# Altium schematic symbol library Connectors.SchLib: 8 symbols
Pins are listed as number, name and electrical type; pins without a type are passive.

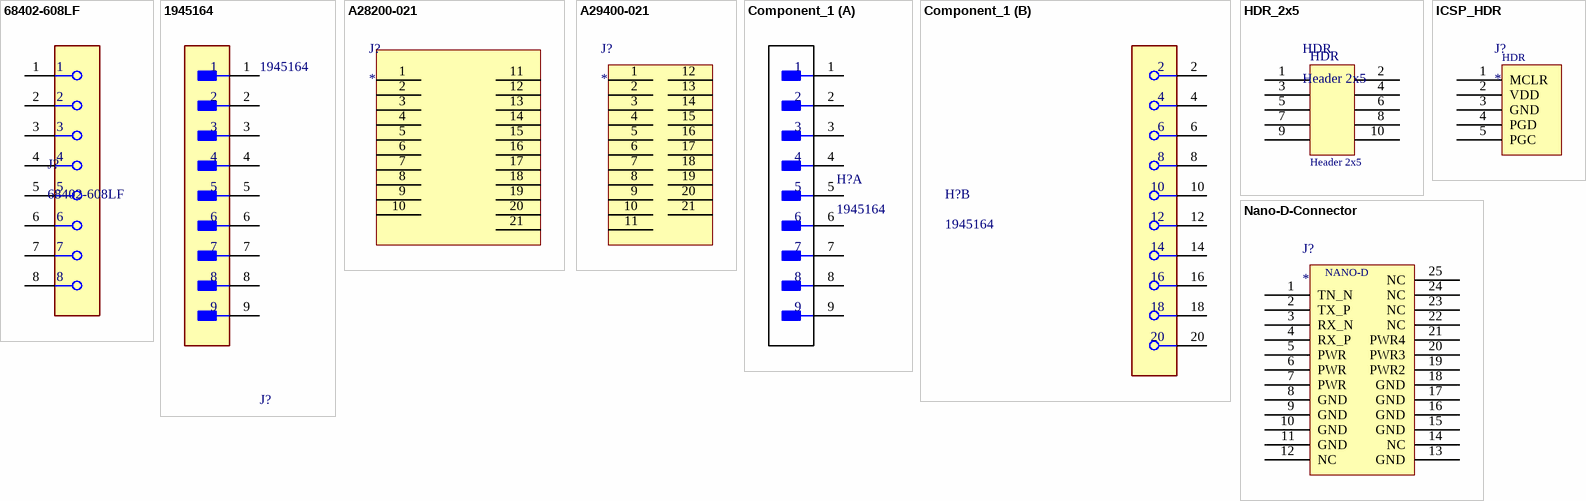
[diagram p0: symbols 68402-608LF to Nano-D-Connector]

## 68402-608LF
designator J?
pins: 1, 2, 3, 4, 5, 6, 7, 8 16

## 1945164
designator J?
TERM BLOCK HDR 9POS VERT 3.5MM; Manufacturer Part Number: 4-644456-0; Manufacturer: TE Connectivity; Current Rating: 5A; Conn Gender: Male; Number Of Contacts: 10; Conn Orientation: Vertical; Voltage Rating: 250V; Number Of Rows: 1; Device Class L3: unset; Octopart: https://octopart.com/4-644456-0-te+connectivity-39514173; Pitch: 3.5mm; Mouser Description: TERM BLOCK HDR 9POS VERT 3.5MM; ComponentLink2Description: Datasheet; Height: 0.408inch; Package: 4-644456-0; RoHS: TRUE; Temperature Range High: +105°C; Digikey Description: CONN HEADER VERT 10POS 2.54MM; Temperature: -55°C to +105°C; Device Class L2: Headers and Wire Housings; Automotive: No; Lead Free: Yes; Contact Material: Tin; Temperature Range Low: -55°C; Footprint Url: https://www.te.com/commerce/DocumentDelivery/DDEController?Action=showdoc&DocId=Customer+Drawing%7F644456%7FD2%7Fpdf%7FEnglish%7FENG_CD_644456_D2.pdf%7F4-644456-0; Device Class L1: Connectors; Category: Conn; ComponentLink2URL: https://media.digikey.com/pdf/Data%20Sheets/Phoenix%20Contact%20PDFs/Combicon%20Compact%20Series.pdf
footprint FP-4-644456-0-MFG
pins: 1, 2, 3, 4, 5, 6, 7, 8, 9

## A28200-021
designator J?
CONN NANO-D PLUG 21POS SMD SLDR
footprint A28200-021 (CONN NANO-D PLUG 21POS SMD SLDR)
pins: 1, 2, 3, 4, 5, 6, 7, 8, 9, 10, 11, 12, 13, 14, 15, 16, 17, 18, 19, 20, 21

## A29400-021
designator J?
21 Position D-Type, Nano-D Receptacle, Female Sockets Connector
pins: 1, 2, 3, 4, 5, 6, 7, 8, 9, 10, 11, 12, 13, 14, 15, 16, 17, 18, 19, 20, 21

## Component_1
designator H?, comment 1945164
part A pins: 1, 2, 3, 4, 5, 6, 7, 8, 9
part B pins: 2, 4, 6, 8, 10, 12, 14, 16, 18, 20

## HDR_2x5
designator HDR, comment Header 2x5
pins: 1, 2, 3, 4, 5, 6, 7, 8, 9, 10

## ICSP_HDR
designator J?
footprint ICSP_HDR (Footprint not found)
pins: 1 MCLR, 2 VDD, 3 GND, 4 PGD, 5 PGC
text: HDR

## Nano-D-Connector
designator J?
pins: 1 TN_N, 2 TX_P, 3 RX_N, 4 RX_P, 5 PWR, 6 PWR, 7 PWR, 8 GND, 9 GND, 10 GND, 11 GND, 12 NC, 13 GND, 14 NC, 15 GND, 16 GND, 17 GND, 18 GND, 19 PWR2, 20 PWR3, 21 PWR4, 22 NC, 23 NC, 24 NC, 25 NC
text: NANO-D